# Altium schematic symbol library 2SA1797.Schlib: 1 symbol
Pins are listed as number, name and electrical type; pins without a type are passive.

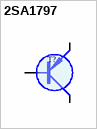
[diagram p0: symbol 2SA1797]

## 2SA1797
designator T?
SOT89     50V 2A 200MHz 36p (2SC4672)
pins: 1 B, 2 C (oc), 3 E (oe)
1 alternate drawing of the same symbol